# Altium schematic symbol library SparkFun-Connectors.SCHLIB: 410 symbols (part 4 of 4)
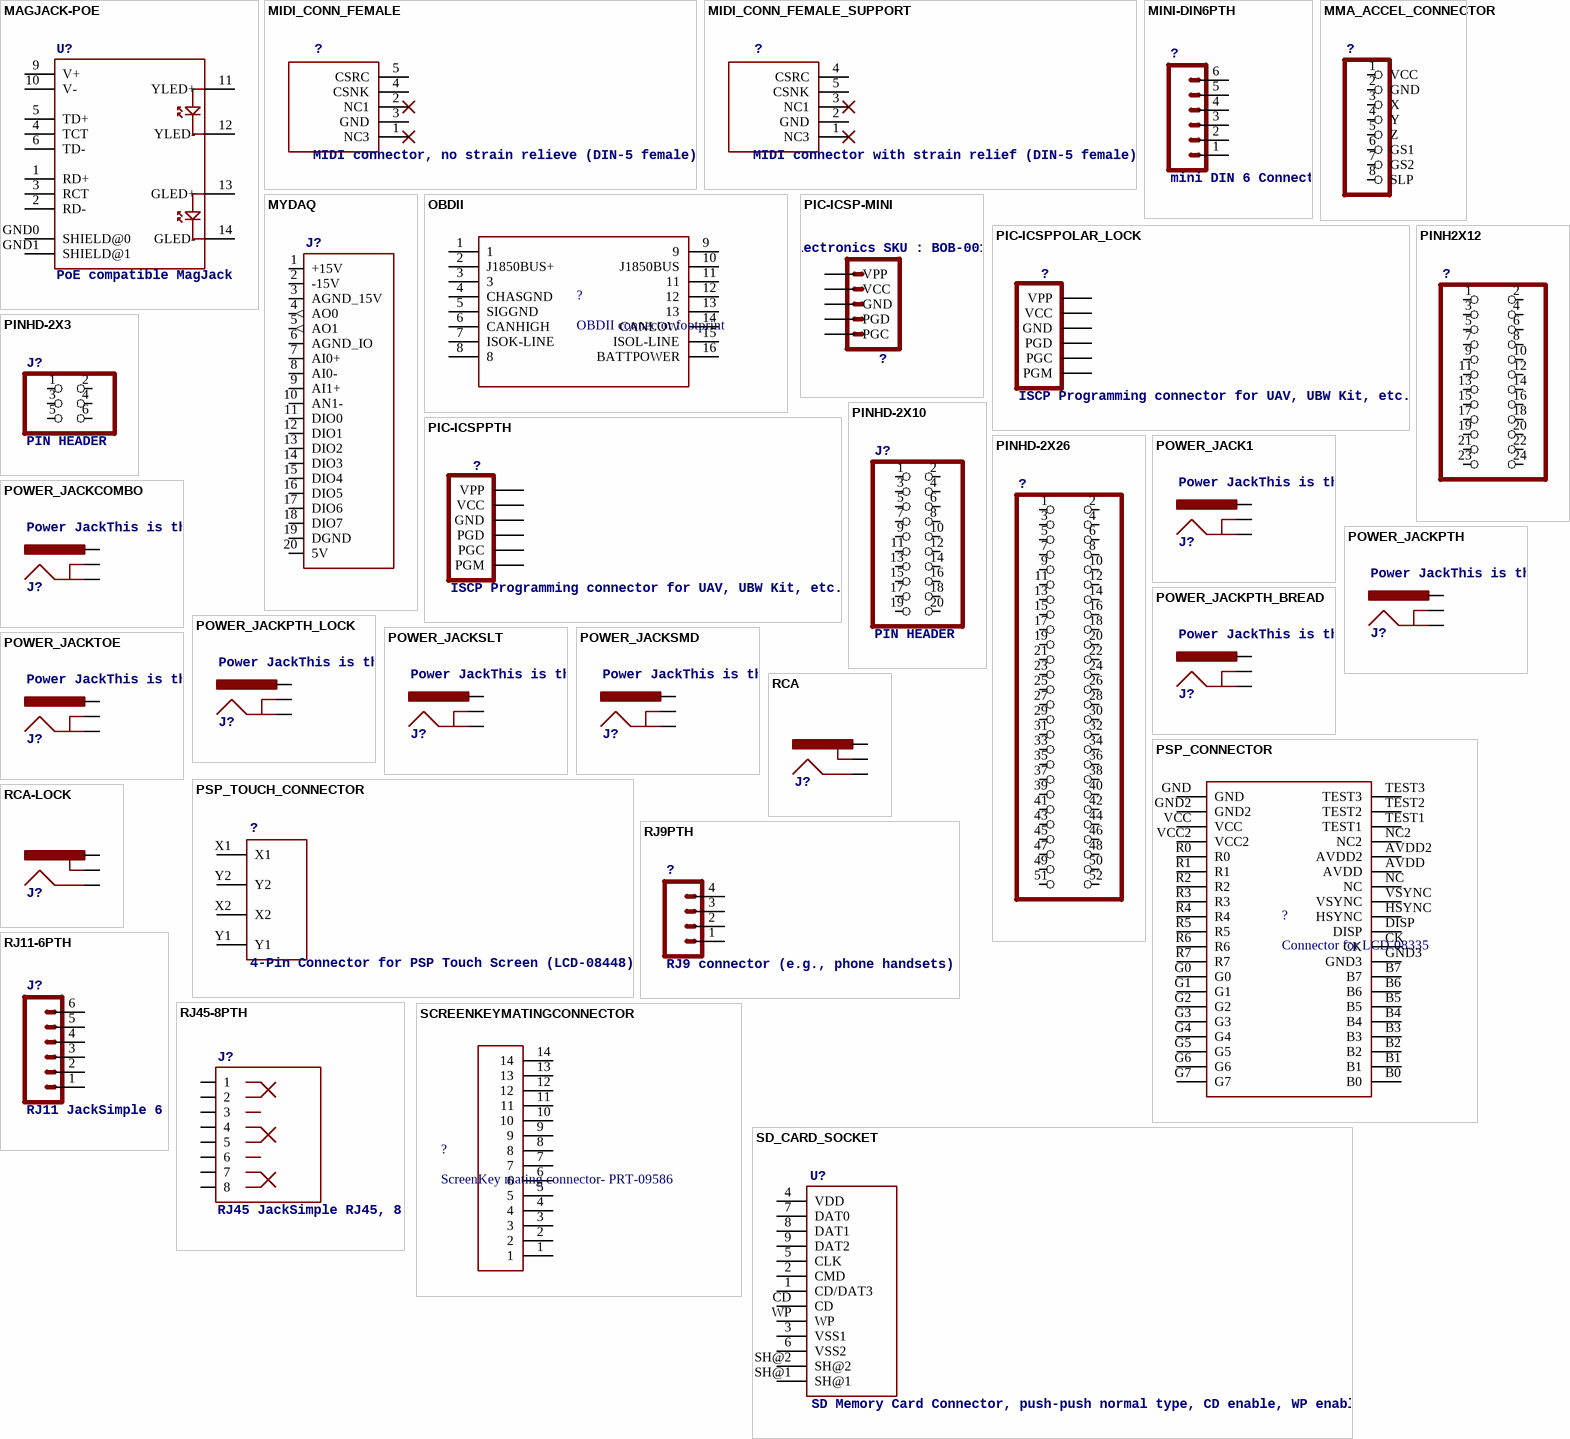
[diagram p15: symbols MAGJACK-POE to SD_CARD_SOCKET]

## PSP_CONNECTOR
designator ?, comment Connector for LCD-08335
footprint PSP_CONNECTOR
pins: AVDD, AVDD2, B0, B1, B2, B3, B4, B5, B6, B7, CK, DISP, G0, G1, G2, G3, G4, G5, G6, G7, GND, GND2, GND3, HSYNC, NC, NC2, R0, R1, R2, R3, R4, R5, R6, R7, TEST1, TEST2, TEST3, VCC, VCC2, VSYNC

## PSP_TOUCH_CONNECTOR
designator ?, comment 4-Pin Connector for PSP Touch Screen (LCD-08448)
footprint PSP_TOUCH_CONNECTOR
pins: X1, X2, Y1, Y2

## RCA
designator J?
footprint RCA
pins: PIN, SHELL, SWITCH

## RCA-LOCK
designator J?
footprint RCA_LOCK
pins: PIN, SHELL, SWITCH

## RJ9PTH
designator ?, comment RJ9 connector (e.g., phone handsets)
footprint RJ9
pins: 1, 2, 3, 4

## RJ11-6PTH
designator J?, comment RJ11 JackSimple 6 pin RJ11 jack. Commonly found on CAT3 devices and Microchip programmers. SKU: PRT-00132
PROD_ID: CONN-08590
footprint RJ11-6
pins: 1, 2, 3, 4, 5, 6

## RJ45-8PTH
designator J?, comment RJ45 JackSimple RJ45, 8-pin connection - connector for common Cat5, Cat5e, and Cat6 Ethernet cables. Footprint not yet proven in production. Connector sku is PRT-00643; Breakout PCB sku is BOB-00716.
PROD_ID: CONN-08506
footprint RJ45-8
pins: 1, 2, 3, 4, 5, 6, 7, 8

## SCREENKEYMATINGCONNECTOR
designator ?, comment ScreenKey mating connector- PRT-09586
footprint SCREENKEYMATINGCONNECTOR
pins: 1, 2, 3, 4, 5, 6, 7, 8, 9, 10, 11, 12, 13, 14

## SD_CARD_SOCKET
designator U?, comment SD Memory Card Connector, push-push normal type, CD enable, WP enable
footprint SD_1:1
pins: 1 CD/DAT3, 2 CMD, 3 VSS1 (power), 4 VDD (power), 5 CLK, 6 VSS2 (power), 7 DAT0, 8 DAT1, 9 DAT2, CD, SH@1, SH@2, WP

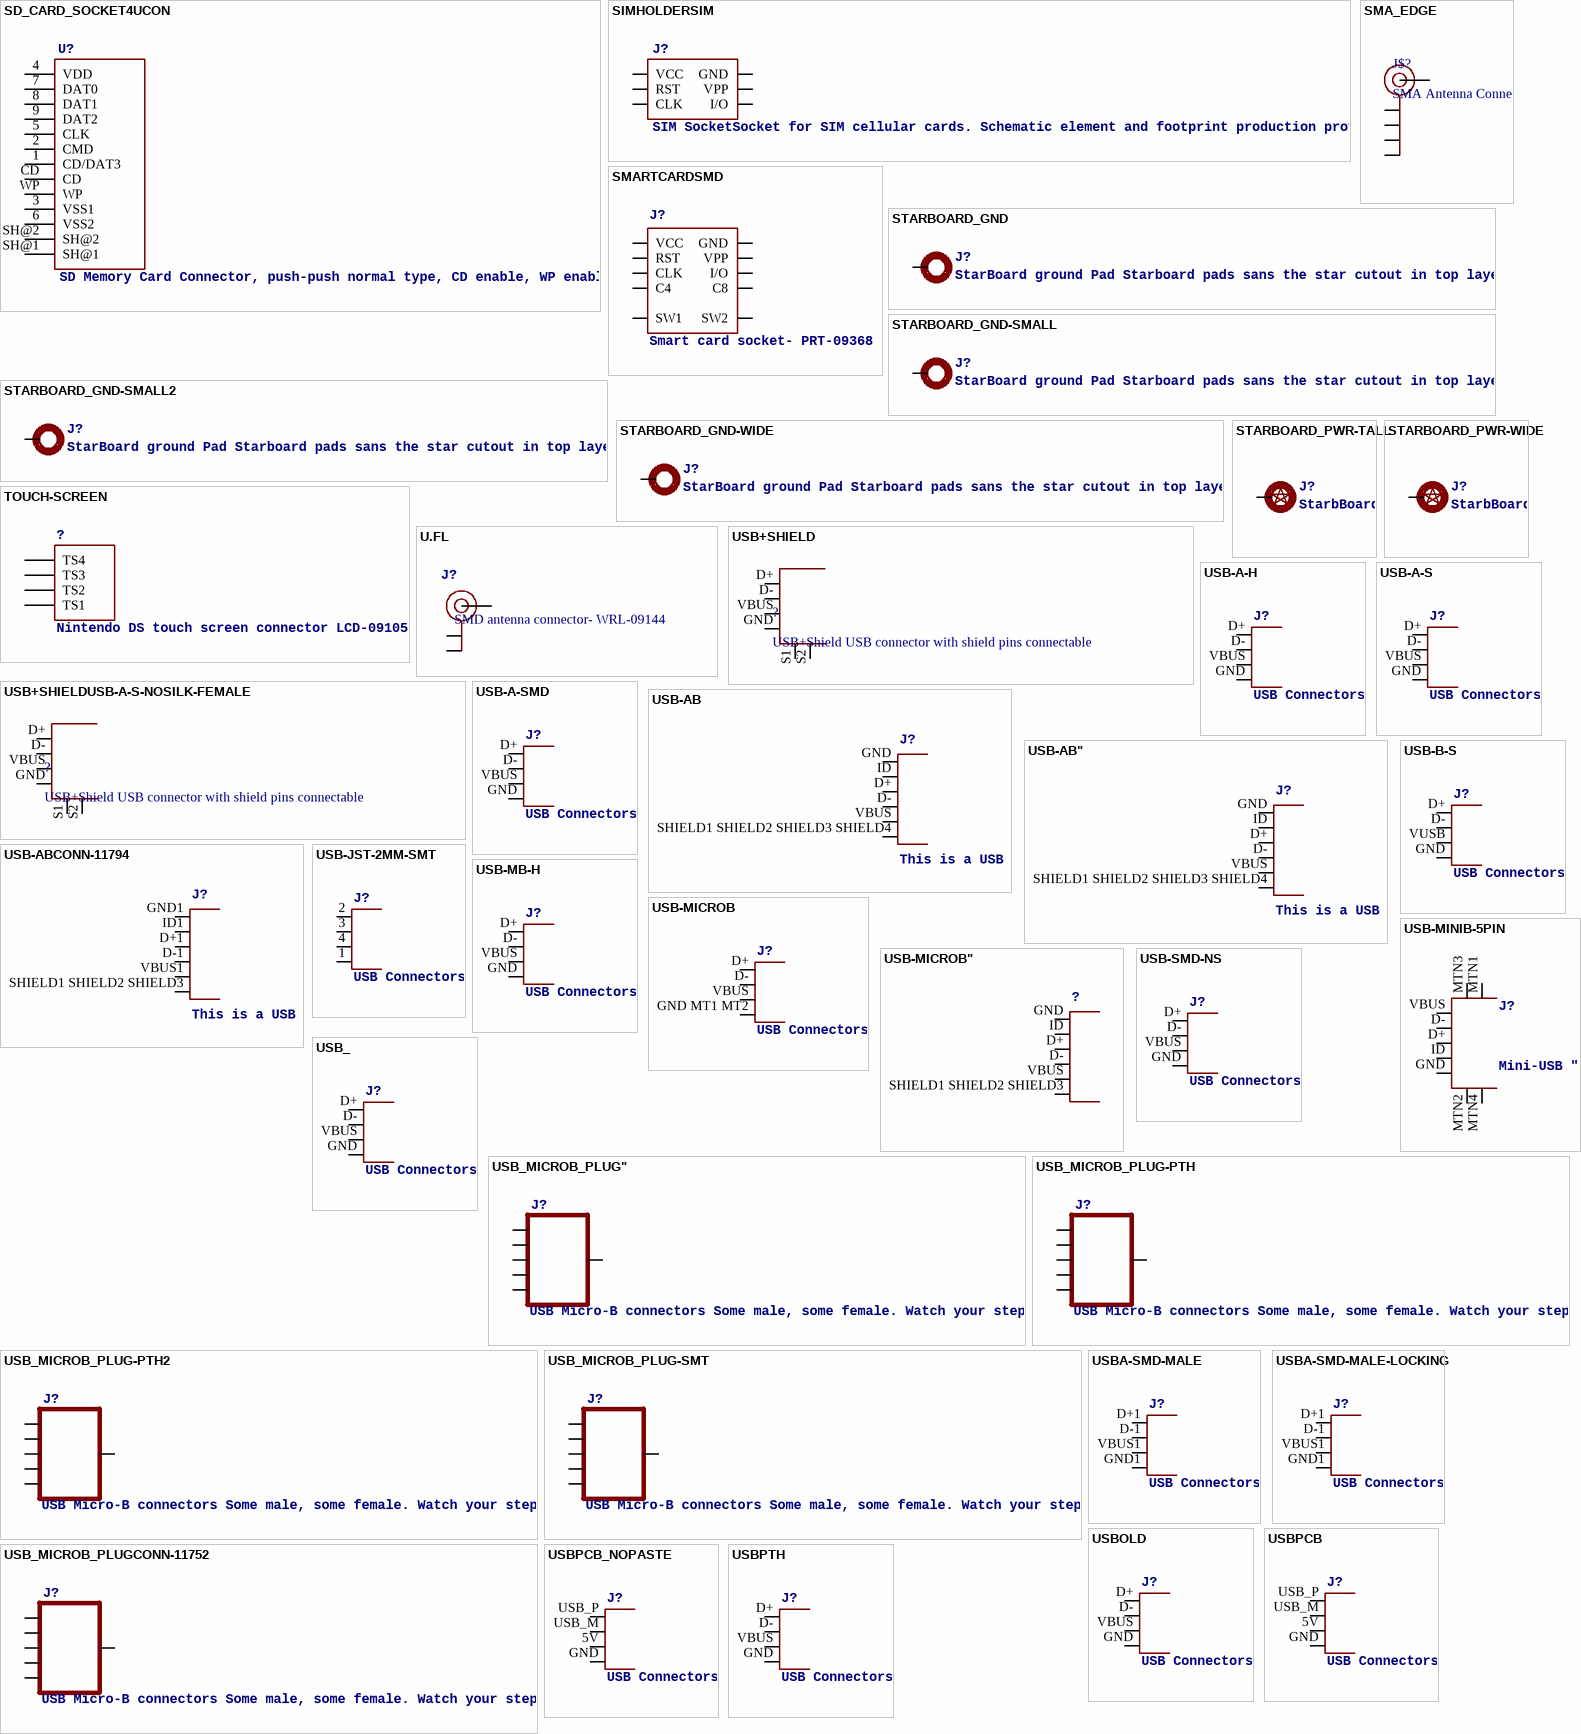
[diagram p10: symbols SD_CARD_SOCKET4UCON to USBPTH]

## SD_CARD_SOCKET4UCON
designator U?, comment SD Memory Card Connector, push-push normal type, CD enable, WP enable
footprint SDCARD_4UCONN
pins: 1 CD/DAT3, 2 CMD, 3 VSS1 (power), 4 VDD (power), 5 CLK, 6 VSS2 (power), 7 DAT0, 8 DAT1, 9 DAT2, CD, SH@1, SH@2, WP

## SIMHOLDERSIM
designator J?, comment SIM SocketSocket for SIM cellular cards. Schematic element and footprint production proven. Spark Fun Electronics SKU : PRT-00548
PROD_ID: CONN-08536
footprint SIMHOLDER
pins: C1 VCC (power), C2 RST, C3 CLK, C5 GND (power), C6 VPP, C7 I/O

## SMA_EDGE
designator J$?, comment SMA Antenna ConnectorEnd launch SMA connector. The paste layer has been removed so that the connector can be hand soldered onto the board after reflow.
footprint SMA-EDGE
pins: GND@0, GND@1, GND@2, GND@3, SIG SIGNAL

## SMARTCARDSMD
designator J?, comment Smart card socket- PRT-09368
footprint SMARTCARD
pins: C1 VCC, C2 RST, C3 CLK, C4, C5 GND, C6 VPP, C7 I/O, C8, P1 SW1, P2 SW2

## STARBOARD_GND
designator J?, comment StarBoard ground Pad Starboard pads sans the star cutout in top layer
footprint STARBOARD_GROUND
pins: GROUND MOUNT

## STARBOARD_GND-SMALL
designator J?, comment StarBoard ground Pad Starboard pads sans the star cutout in top layer
footprint STARBOARD_GROUND_SMALL
pins: GROUND MOUNT

## STARBOARD_GND-SMALL2
designator J?, comment StarBoard ground Pad Starboard pads sans the star cutout in top layer
footprint STARBOARD_GROUND_SMALL2
pins: GROUND MOUNT

## STARBOARD_GND-WIDE
designator J?, comment StarBoard ground Pad Starboard pads sans the star cutout in top layer
footprint STARBOARD_GROUND_WIDE
pins: GROUND MOUNT

## STARBOARD_PWR-TALL
designator J?, comment StarbBoard Power pad Power pads are designated by the star cutout in the top layer.
footprint STARBOARD_PWR
pins: PWR MOUNT

## STARBOARD_PWR-WIDE
designator J?, comment StarbBoard Power pad Power pads are designated by the star cutout in the top layer.
footprint STARBOARD_PWR_WIDE
pins: GROUND MOUNT

## TOUCH-SCREEN
designator ?, comment Nintendo DS touch screen connector LCD-09105
footprint TOUCH-SCREEN
pins: P$1 TS4, P$2 TS3, P$3 TS2, P$4 TS1

## U.FL
designator J?, comment SMD antenna connector- WRL-09144
PROD_ID: CONN-09193
footprint U.FL
pins: P$1 GND@0, P$2 GND@1, P$3 SIGNAL

## USB+SHIELD
designator ?, comment USB+Shield USB connector with shield pins connectable
footprint USB-B-PTH
pins: D+, D-, GND, S1, S2, VBUS

## USB+SHIELDUSB-A-S-NOSILK-FEMALE
designator ?, comment USB+Shield USB connector with shield pins connectable
footprint USB-A-S-NOSILK-FEMALE
pins: D+, D-, GND, S1, S2, VBUS

## USB-A-H
designator J?, comment USB Connectors   USB-B-PTH is fully proven SKU : PRT-00139/CONN-08278    USB-miniB is fully proven SKU : PRT-00587    USB-A-PCB is untested.    USB-A-H is throughly reviewed, but untested. Spark Fun Electronics SKU : PRT-00437    USB-B-SMT is throughly reviewed, but untested. Needs silkscreen touching up.    USB-A-S has not been used/tested    USB-MB-H has not been used/tested    USB-MICROB has been used. CONN-09505
PROD_ID: CONN-08367
footprint USB-A-H
pins: D+, D-, GND, VBUS

## USB-A-S
designator J?, comment USB Connectors   USB-B-PTH is fully proven SKU : PRT-00139/CONN-08278    USB-miniB is fully proven SKU : PRT-00587    USB-A-PCB is untested.    USB-A-H is throughly reviewed, but untested. Spark Fun Electronics SKU : PRT-00437    USB-B-SMT is throughly reviewed, but untested. Needs silkscreen touching up.    USB-A-S has not been used/tested    USB-MB-H has not been used/tested    USB-MICROB has been used. CONN-09505
footprint USB-A-S
pins: D+, D-, GND, VBUS

## USB-A-SMD
designator J?, comment USB Connectors   USB-B-PTH is fully proven SKU : PRT-00139/CONN-08278    USB-miniB is fully proven SKU : PRT-00587    USB-A-PCB is untested.    USB-A-H is throughly reviewed, but untested. Spark Fun Electronics SKU : PRT-00437    USB-B-SMT is throughly reviewed, but untested. Needs silkscreen touching up.    USB-A-S has not been used/tested    USB-MB-H has not been used/tested    USB-MICROB has been used. CONN-09505
PROD_ID: CONN-09520
footprint USB-A-S-NOSILK-FEMALE
pins: D+, D-, GND, VBUS

## USB-AB
designator J?, comment This is a USB AB connector that is compatible with USB OTG. i.e. this connector can serve as a host or device
footprint USB-AB-MICRO-SMD
pins: D+, D-, GND, ID USBID, SHIELD1 SHIELD2 SHIELD3 SHIELD4 SHIELD, VBUS

## USB-AB"
designator J?, comment This is a USB AB connector that is compatible with USB OTG. i.e. this connector can serve as a host or device
footprint USB_AB_MICRO_1:1_V2
pins: D+, D-, GND, ID USBID, SHIELD1 SHIELD2 SHIELD3 SHIELD4 SHIELD, VBUS

## USB-ABCONN-11794
designator J?, comment This is a USB AB connector that is compatible with USB OTG. i.e. this connector can serve as a host or device
PROD_ID: CONN-11794
footprint USB-AB-MICRO-SMD_V03
pins: D+1 D+, D-1 D-, GND1 GND, ID1 USBID, SHIELD1 SHIELD2 SHIELD3 SHIELD, VBUS1 VBUS

## USB-B-S
designator J?, comment USB Connectors   USB-B-PTH is fully proven SKU : PRT-00139/CONN-08278    USB-miniB is fully proven SKU : PRT-00587    USB-A-PCB is untested.    USB-A-H is throughly reviewed, but untested. Spark Fun Electronics SKU : PRT-00437    USB-B-SMT is throughly reviewed, but untested. Needs silkscreen touching up.    USB-A-S has not been used/tested    USB-MB-H has not been used/tested    USB-MICROB has been used. CONN-09505
footprint USB-B-SMT
pins: D+, D-, GND, VUSB VBUS

## USB-JST-2MM-SMT
designator J?, comment USB Connectors   USB-B-PTH is fully proven SKU : PRT-00139/CONN-08278    USB-miniB is fully proven SKU : PRT-00587    USB-A-PCB is untested.    USB-A-H is throughly reviewed, but untested. Spark Fun Electronics SKU : PRT-00437    USB-B-SMT is throughly reviewed, but untested. Needs silkscreen touching up.    USB-A-S has not been used/tested    USB-MB-H has not been used/tested    USB-MICROB has been used. CONN-09505
PROD_ID: CONN-08193
footprint S4B-PH
pins: 1 GND, 2 D+, 3 D-, 4 VBUS

## USB-MB-H
designator J?, comment USB Connectors   USB-B-PTH is fully proven SKU : PRT-00139/CONN-08278    USB-miniB is fully proven SKU : PRT-00587    USB-A-PCB is untested.    USB-A-H is throughly reviewed, but untested. Spark Fun Electronics SKU : PRT-00437    USB-B-SMT is throughly reviewed, but untested. Needs silkscreen touching up.    USB-A-S has not been used/tested    USB-MB-H has not been used/tested    USB-MICROB has been used. CONN-09505
footprint USB-MB-H
pins: D+, D-, GND, VBUS

## USB-MICROB
designator J?, comment USB Connectors   USB-B-PTH is fully proven SKU : PRT-00139/CONN-08278    USB-miniB is fully proven SKU : PRT-00587    USB-A-PCB is untested.    USB-A-H is throughly reviewed, but untested. Spark Fun Electronics SKU : PRT-00437    USB-B-SMT is throughly reviewed, but untested. Needs silkscreen touching up.    USB-A-S has not been used/tested    USB-MB-H has not been used/tested    USB-MICROB has been used. CONN-09505
PROD_ID: CONN-09505
footprint USB-MICROB
pins: D+, D-, GND MT1 MT2 GND, VBUS

## USB-MICROB"
designator ?
PROD_ID: CONN-11752
footprint USB-B-MICRO-SMD_V03
pins: D+, D-, GND, ID USBID, SHIELD1 SHIELD2 SHIELD3 SHIELD, VBUS

## USB-MINIB-5PIN
designator J?, comment Mini-USB "B" connector with 5th pin broken out.   Created new symbol breaking out 5th "ID" pin in mini/micro USB connector spec.  See: http://en.wikipedia.org/wiki/Mini_usb#Cables.  Uses same footprint as 4-pin symbol.    Also added pins to connect to mounting / shield pads if required (probably not generally needed as signals aren't shielded once they leave the connector).
PROD_ID: CONN-08193
footprint USB-MINIB
pins: D+, D-, GND, ID, MTN1 MTN2, MTN2 MTN3, MTN3 MTN1, MTN4, VBUS

## USB-SMD-NS
designator J?, comment USB Connectors   USB-B-PTH is fully proven SKU : PRT-00139/CONN-08278    USB-miniB is fully proven SKU : PRT-00587    USB-A-PCB is untested.    USB-A-H is throughly reviewed, but untested. Spark Fun Electronics SKU : PRT-00437    USB-B-SMT is throughly reviewed, but untested. Needs silkscreen touching up.    USB-A-S has not been used/tested    USB-MB-H has not been used/tested    USB-MICROB has been used. CONN-09505
footprint USB-MINIB-NOSTOP
pins: D+, D-, GND, VBUS

## USB_
designator J?, comment USB Connectors   USB-B-PTH is fully proven SKU : PRT-00139/CONN-08278    USB-miniB is fully proven SKU : PRT-00587    USB-A-PCB is untested.    USB-A-H is throughly reviewed, but untested. Spark Fun Electronics SKU : PRT-00437    USB-B-SMT is throughly reviewed, but untested. Needs silkscreen touching up.    USB-A-S has not been used/tested    USB-MB-H has not been used/tested    USB-MICROB has been used. CONN-09505
footprint USB-A-S-SILK-FEMALE
pins: D+, D-, GND, VBUS

## USB_MICROB_PLUG"
designator J?, comment USB Micro-B connectors Some male, some female. Watch your step!
footprint MICRO-B-RA-SMT
pins: 1 VCC, 2 D-, 3 D+, 4 ID, 5 GND, ?1 SHIELD

## USB_MICROB_PLUG-PTH
designator J?, comment USB Micro-B connectors Some male, some female. Watch your step!
footprint MICRO-B-RA-TH
pins: 1 VCC, 2 D-, 3 D+, 4 ID, 5 GND, ?1 SHIELD

## USB_MICROB_PLUG-PTH2
designator J?, comment USB Micro-B connectors Some male, some female. Watch your step!
footprint MICRO-B-TH
pins: 1 VCC, 2 D-, 3 D+, 4 ID, 5 GND, ?1 SHIELD

## USB_MICROB_PLUG-SMT
designator J?, comment USB Micro-B connectors Some male, some female. Watch your step!
PROD_ID: CONN-09900
footprint MICRO-B-SMT
pins: 1 VCC, 2 D-, 3 D+, 4 ID, 5 GND, P$6 SHIELD

## USB_MICROB_PLUGCONN-11752
designator J?, comment USB Micro-B connectors Some male, some female. Watch your step!
PROD_ID: CONN-11752
footprint USB-B-MICRO-SMD_V03
pins: D+, D-, GND, ID, SHIELD1 SHIELD2 SHIELD3 SHIELD, VBUS VCC

## USBA-SMD-MALE
designator J?, comment USB Connectors   USB-B-PTH is fully proven SKU : PRT-00139/CONN-08278    USB-miniB is fully proven SKU : PRT-00587    USB-A-PCB is untested.    USB-A-H is throughly reviewed, but untested. Spark Fun Electronics SKU : PRT-00437    USB-B-SMT is throughly reviewed, but untested. Needs silkscreen touching up.    USB-A-S has not been used/tested    USB-MB-H has not been used/tested    USB-MICROB has been used. CONN-09505
footprint USB-A-SMT-MALE
pins: D+1 D+, D-1 D-, GND1 GND, VBUS1 VBUS

## USBA-SMD-MALE-LOCKING
designator J?, comment USB Connectors   USB-B-PTH is fully proven SKU : PRT-00139/CONN-08278    USB-miniB is fully proven SKU : PRT-00587    USB-A-PCB is untested.    USB-A-H is throughly reviewed, but untested. Spark Fun Electronics SKU : PRT-00437    USB-B-SMT is throughly reviewed, but untested. Needs silkscreen touching up.    USB-A-S has not been used/tested    USB-MB-H has not been used/tested    USB-MICROB has been used. CONN-09505
footprint USB-A-SMT-MALE-LOCKING
pins: D+1 D+, D-1 D-, GND1 GND, VBUS1 VBUS

## USBOLD
designator J?, comment USB Connectors   USB-B-PTH is fully proven SKU : PRT-00139/CONN-08278    USB-miniB is fully proven SKU : PRT-00587    USB-A-PCB is untested.    USB-A-H is throughly reviewed, but untested. Spark Fun Electronics SKU : PRT-00437    USB-B-SMT is throughly reviewed, but untested. Needs silkscreen touching up.    USB-A-S has not been used/tested    USB-MB-H has not been used/tested    USB-MICROB has been used. CONN-09505
footprint USB-MINIB-OLD
pins: D+, D-, GND, VBUS

## USBPCB
designator J?, comment USB Connectors   USB-B-PTH is fully proven SKU : PRT-00139/CONN-08278    USB-miniB is fully proven SKU : PRT-00587    USB-A-PCB is untested.    USB-A-H is throughly reviewed, but untested. Spark Fun Electronics SKU : PRT-00437    USB-B-SMT is throughly reviewed, but untested. Needs silkscreen touching up.    USB-A-S has not been used/tested    USB-MB-H has not been used/tested    USB-MICROB has been used. CONN-09505
footprint USB-A-PCB
pins: 5V VBUS, GND, USB_M D-, USB_P D+

## USBPCB_NOPASTE
designator J?, comment USB Connectors   USB-B-PTH is fully proven SKU : PRT-00139/CONN-08278    USB-miniB is fully proven SKU : PRT-00587    USB-A-PCB is untested.    USB-A-H is throughly reviewed, but untested. Spark Fun Electronics SKU : PRT-00437    USB-B-SMT is throughly reviewed, but untested. Needs silkscreen touching up.    USB-A-S has not been used/tested    USB-MB-H has not been used/tested    USB-MICROB has been used. CONN-09505
footprint USB-A-PCB-NOPASTE
pins: 5V VBUS, GND, USB_M D-, USB_P D+

## USBPTH
designator J?, comment USB Connectors   USB-B-PTH is fully proven SKU : PRT-00139/CONN-08278    USB-miniB is fully proven SKU : PRT-00587    USB-A-PCB is untested.    USB-A-H is throughly reviewed, but untested. Spark Fun Electronics SKU : PRT-00437    USB-B-SMT is throughly reviewed, but untested. Needs silkscreen touching up.    USB-A-S has not been used/tested    USB-MB-H has not been used/tested    USB-MICROB has been used. CONN-09505
PROD_ID: CONN-08278
footprint USB-B-PTH
pins: D+, D-, GND, VBUS

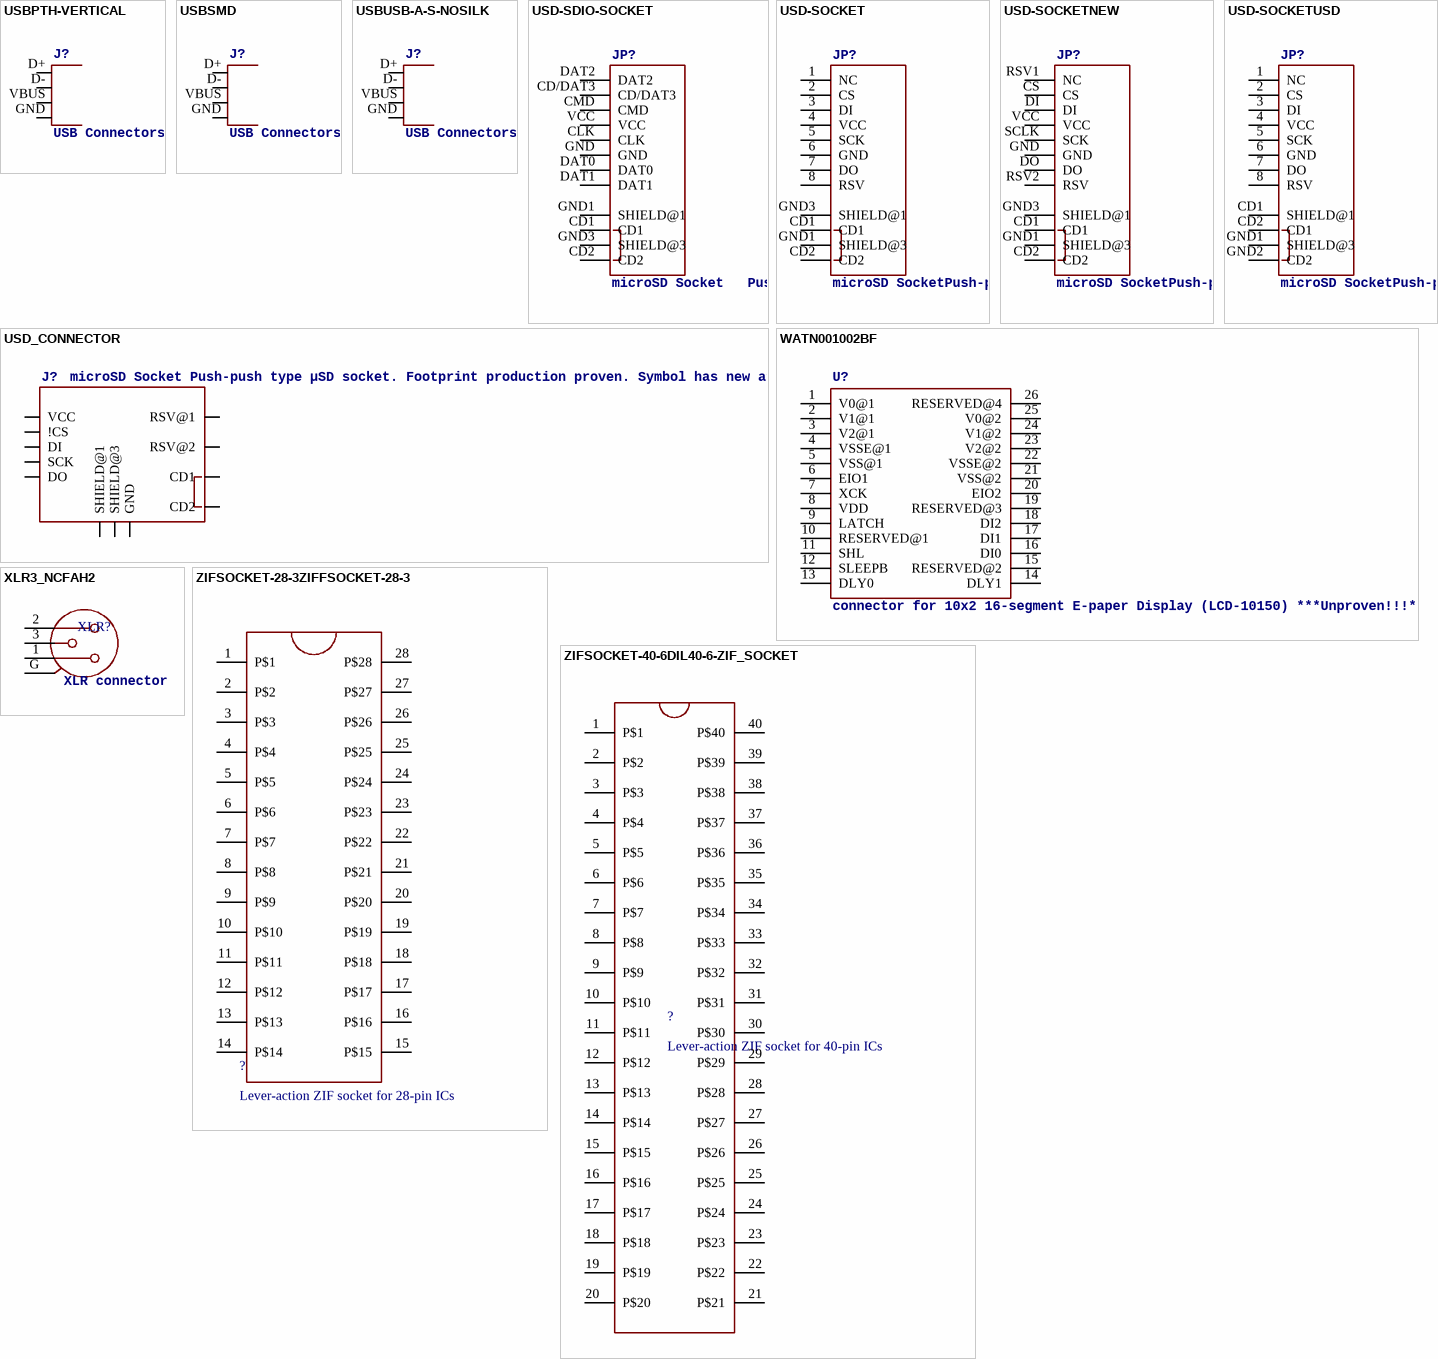
[diagram p11: symbols USBPTH-VERTICAL to ZIFSOCKET-40-6DIL40-6-ZIF_SOCKET]

## USBPTH-VERTICAL
designator J?, comment USB Connectors   USB-B-PTH is fully proven SKU : PRT-00139/CONN-08278    USB-miniB is fully proven SKU : PRT-00587    USB-A-PCB is untested.    USB-A-H is throughly reviewed, but untested. Spark Fun Electronics SKU : PRT-00437    USB-B-SMT is throughly reviewed, but untested. Needs silkscreen touching up.    USB-A-S has not been used/tested    USB-MB-H has not been used/tested    USB-MICROB has been used. CONN-09505
footprint USB-B-PTH-VERTICAL
pins: D+, D-, GND, VBUS

## USBSMD
designator J?, comment USB Connectors   USB-B-PTH is fully proven SKU : PRT-00139/CONN-08278    USB-miniB is fully proven SKU : PRT-00587    USB-A-PCB is untested.    USB-A-H is throughly reviewed, but untested. Spark Fun Electronics SKU : PRT-00437    USB-B-SMT is throughly reviewed, but untested. Needs silkscreen touching up.    USB-A-S has not been used/tested    USB-MB-H has not been used/tested    USB-MICROB has been used. CONN-09505
PROD_ID: CONN-08193
footprint USB-MINIB
pins: D+, D-, GND, VBUS

## USBUSB-A-S-NOSILK
designator J?, comment USB Connectors   USB-B-PTH is fully proven SKU : PRT-00139/CONN-08278    USB-miniB is fully proven SKU : PRT-00587    USB-A-PCB is untested.    USB-A-H is throughly reviewed, but untested. Spark Fun Electronics SKU : PRT-00437    USB-B-SMT is throughly reviewed, but untested. Needs silkscreen touching up.    USB-A-S has not been used/tested    USB-MB-H has not been used/tested    USB-MICROB has been used. CONN-09505
footprint USB-A-S-NOSILK
pins: D+, D-, GND, VBUS

## USD-SDIO-SOCKET
designator JP?, comment microSD Socket   Push-push type uSD socket with full SDIO signal mapping. Spark Fun Electronics SKU : PRT-00127. tDoc lines correctly indicate media card edge positions when inserting (unlocked, locked, depressed). NOTE: CD1 and CD2 are connected internally, and short to ground when card is removed.
PROD_ID: CONN-07820
footprint MICRO-SD-SOCKET-SDIO
pins: CD1, CD2, CD/DAT3, CLK, CMD, DAT0, DAT1, DAT2, GND, GND1 SHIELD@1, GND3 SHIELD@3, VCC

## USD-SOCKET
designator JP?, comment microSD SocketPush-push type uSD socket. Schematic element and footprint production proven. Spark Fun Electronics SKU : PRT-00127. tDoc lines correctly indicate media card edge positions when inserting (unlocked, locked, depressed). NOTE: CD1 and CD2 are connected internally
PROD_ID: CONN-07820
footprint MICROSD_1:1
pins: 1 NC, 2 CS, 3 DI, 4 VCC, 5 SCK, 6 GND, 7 DO, 8 RSV, CD1, CD2, GND1 SHIELD@3, GND3 SHIELD@1

## USD-SOCKETNEW
designator JP?, comment microSD SocketPush-push type uSD socket. Schematic element and footprint production proven. Spark Fun Electronics SKU : PRT-00127. tDoc lines correctly indicate media card edge positions when inserting (unlocked, locked, depressed). NOTE: CD1 and CD2 are connected internally
PROD_ID: CONN-07820
footprint MICRO-SD-SOCKET-PP
pins: CD1, CD2, CS, DI, DO, GND, GND1 SHIELD@3, GND3 SHIELD@1, RSV1 NC, RSV2 RSV, SCLK SCK, VCC

## USD-SOCKETUSD
designator JP?, comment microSD SocketPush-push type uSD socket. Schematic element and footprint production proven. Spark Fun Electronics SKU : PRT-00127. tDoc lines correctly indicate media card edge positions when inserting (unlocked, locked, depressed). NOTE: CD1 and CD2 are connected internally
footprint USD-SOCKET-PP
pins: 1 NC, 2 CS, 3 DI, 4 VCC, 5 SCK, 6 GND, 7 DO, 8 RSV, CD1 SHIELD@1, CD2 CD1, GND1 SHIELD@3, GND2 CD2

## USD_CONNECTOR
designator J?, comment microSD Socket Push-push type µSD socket. Footprint production proven. Symbol has new and improved layout and naming accuracy. SparkFun Electronics SKU : PRT-00127. tDoc lines correctly indicate media card edge positions when inserting (unlocked, locked, depressed). NOTE: CD1 and CD2 are connected internally
PROD_ID: CONN-07820
footprint MICRO-SD-SOCKET-PP
pins: CD1, CD2, CS !CS, DI, DO, GND, GND1 SHIELD@1, GND3 SHIELD@3, RSV1 RSV@1, RSV2 RSV@2, SCLK SCK, VCC

## WATN001002BF
designator U?, comment connector for 10x2 16-segment E-paper Display (LCD-10150) ***Unproven!!!***
footprint FFC26
pins: 1 V0@1, 2 V1@1, 3 V2@1, 4 VSSE@1, 5 VSS@1, 6 EIO1, 7 XCK, 8 VDD, 9 LATCH, 10 RESERVED@1, 11 SHL, 12 SLEEPB, 13 DLY0, 14 DLY1, 15 RESERVED@2, 16 DI0, 17 DI1, 18 DI2, 19 RESERVED@3, 20 EIO2, 21 VSS@2, 22 VSSE@2, 23 V2@2, 24 V1@2, 25 V0@2, 26 RESERVED@4

## XLR3_NCFAH2
designator XLR?, comment XLR connector
footprint XLR3_NC3FAH2
pins: 1, 2, 3, G

## ZIFSOCKET-28-3ZIFFSOCKET-28-3
designator ?, comment Lever-action ZIF socket for 28-pin ICs
footprint DIL28-3-ZIF_SOCKET
pins: 1 P$1, 2 P$2, 3 P$3, 4 P$4, 5 P$5, 6 P$6, 7 P$7, 8 P$8, 9 P$9, 10 P$10, 11 P$11, 12 P$12, 13 P$13, 14 P$14, 15 P$15, 16 P$16, 17 P$17, 18 P$18, 19 P$19, 20 P$20, 21 P$21, 22 P$22, 23 P$23, 24 P$24, 25 P$25, 26 P$26, 27 P$27, 28 P$28

## ZIFSOCKET-40-6DIL40-6-ZIF_SOCKET
designator ?, comment Lever-action ZIF socket for 40-pin ICs
footprint DIL40-6-ZIF_SOCKET
pins: 1 P$1, 2 P$2, 3 P$3, 4 P$4, 5 P$5, 6 P$6, 7 P$7, 8 P$8, 9 P$9, 10 P$10, 11 P$11, 12 P$12, 13 P$13, 14 P$14, 15 P$15, 16 P$16, 17 P$17, 18 P$18, 19 P$19, 20 P$20, 21 P$21, 22 P$22, 23 P$23, 24 P$24, 25 P$25, 26 P$26, 27 P$27, 28 P$28, 29 P$29, 30 P$30, 31 P$31, 32 P$32, 33 P$33, 34 P$34, 35 P$35, 36 P$36, 37 P$37, 38 P$38, 39 P$39, 40 P$40

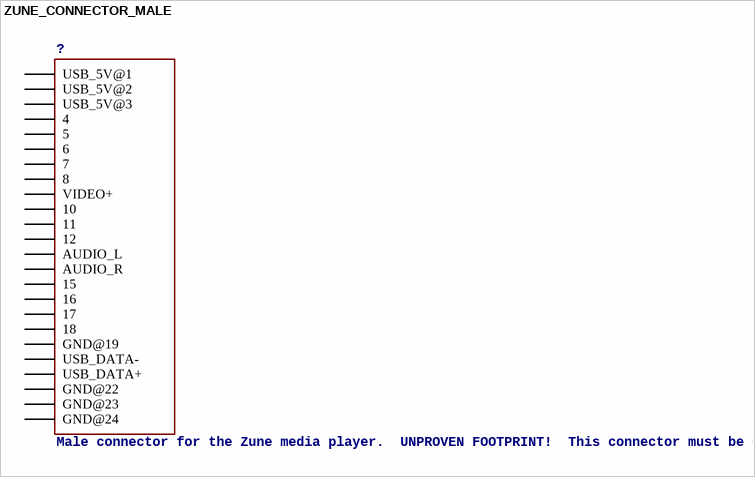
[diagram p12: symbol ZUNE_CONNECTOR_MALE]

## ZUNE_CONNECTOR_MALE
designator ?, comment Male connector for the Zune media player.  UNPROVEN FOOTPRINT!  This connector must be used only with a 1.2mm PCB thickness.
footprint ZUNE_CONNECTOR_MALE
pins: P$1 USB_5V@1, P$2 USB_5V@2, P$3 USB_5V@3, P$4 4, P$5 5, P$6 6, P$7 7, P$8 8, P$9 VIDEO+, P$10 10, P$11 11, P$12 12, P$13 AUDIO_L, P$14 AUDIO_R, P$15 15, P$16 16, P$17 17, P$18 18, P$19 GND@19, P$20 USB_DATA-, P$21 USB_DATA+, P$22 GND@22, P$23 GND@23, P$24 GND@24